# EAGLE library part CX60-24S-UNIT (library CX60-24S-UNIT)
USB-C (USB TYPE-C) USB 3.1 (USB 3.1 Gen 2, Superspeed+) Plug Connector 24 Position Board Edge, Straddle Mount Check availability <https://pricing.snapeda.com/parts/CX60-24S-UNIT/Hirose%20Electric%20Co%20Ltd/view-part?ref=eda>
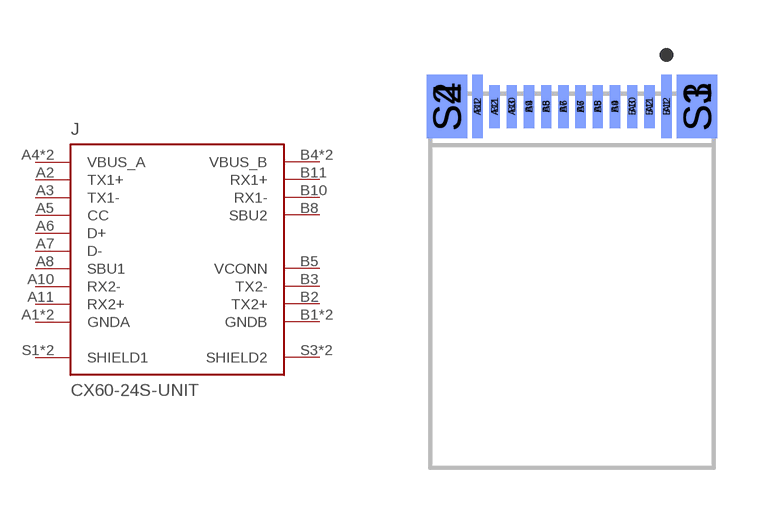
[diagram p0: symbol with the pads of HIROSE_CX60-24S-UNIT; footprint HIROSE_CX60-24S-UNIT]

Designator prefix J

## CX60-24S-UNIT (Availability: In Stock; Description: USB-C (USB TYPE-C) USB 3.2 Gen 2 (USB 3.1 Gen 2, Superspeed + (USB 3.1)) Plug Connector 24 Position Board Edge, Straddle Mount; MF: Hirose Electric Co Ltd; MP: CX60-24S-UNIT; Package: None; Price: None; Purchase-URL: https://pricing.snapeda.com/search/part/CX60-24S-UNIT/?ref=eda)  [HIROSE_CX60-24S-UNIT]
A1  GNDA  pwr
A2  TX1+
A3  TX1-
A4  VBUS_A  pwr
A5  CC
A6  D+
A7  D-
A8  SBU1
A9  VBUS_A  pwr
A10  RX2-
A11  RX2+
A12  GNDA  pwr
B1  GNDB  pwr
B2  TX2+
B3  TX2-
B4  VBUS_B  pwr
B5  VCONN
B8  SBU2
B9  VBUS_B  pwr
B10  RX1-
B11  RX1+
B12  GNDB  pwr
S1  SHIELD1  pas
S2  SHIELD1  pas
S3  SHIELD2  pas
S4  SHIELD2  pas

## Footprint HIROSE_CX60-24S-UNIT (pad centres in mm)
smd 0.3 x 1.85: A1 2.75,0; A12 -2.75,0
smd 0.3 x 1.25: A2 2.25,0; A3 1.75,0; A4 1.25,0; A5 0.75,0; A6 0.25,0; A7 -0.25,0; A8 -0.75,0; A9 -1.25,0; A10 -1.75,0; A11 -2.25,0
smd 0.3 x 1.85 bottom: B1 -2.75,0; B12 2.75,0
smd 0.3 x 1.25 bottom: B2 -2.25,0; B3 -1.75,0; B4 -1.25,0; B5 -0.75,0; B6 -0.25,0; B7 0.25,0; B8 0.75,0; B9 1.25,0; B10 1.75,0; B11 2.25,0
smd 1.18 x 1.85: S1 3.64,0; S2 -3.64,0
smd 1.18 x 1.85 bottom: S3 3.64,0; S4 -3.64,0